# EAGLE library part FROG12NM (library BGASolder)
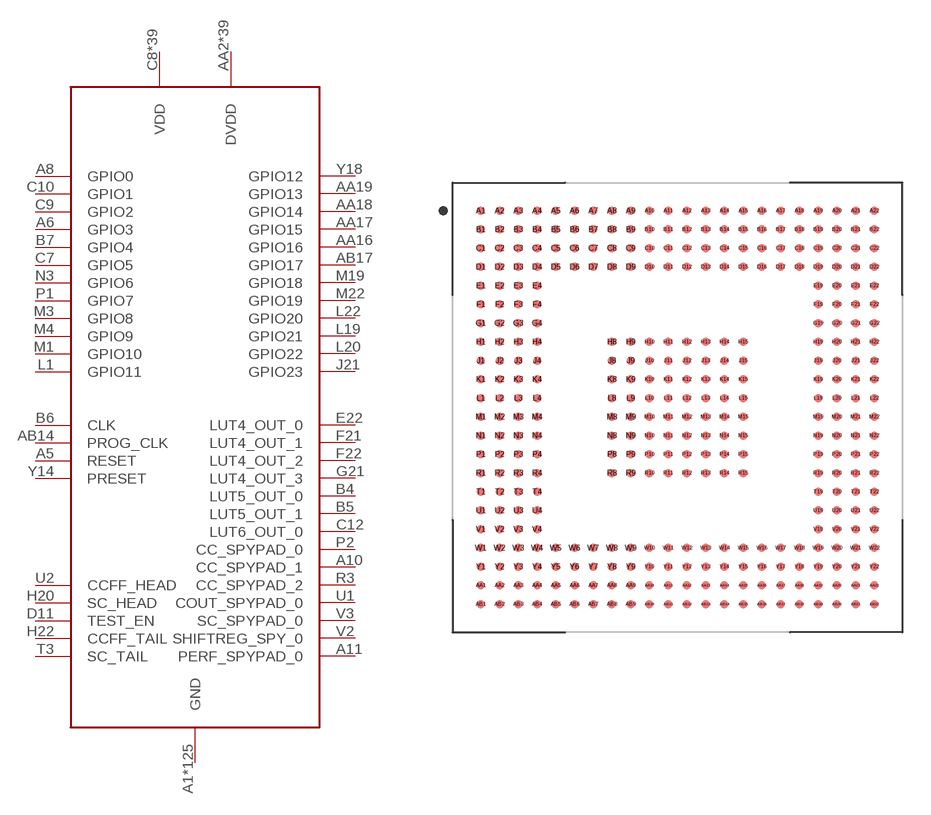
[diagram p1: symbol with the pads of BGA484C100P22X22_2400X2400X220N; footprint BGA484C100P22X22_2400X2400X220N]

Designator prefix U

## FROG12NM  [BGA484C100P22X22_2400X2400X220N]
A1  GND
A4  GND
A5  RESET
A6  GPIO3
A8  GPIO0
A9  GND
A10  CC_SPYPAD_1
A11  PERF_SPYPAD_0
A12  GND
A15  GND
A19  GND
A22  GND
AA2  DVDD
AA3  GND
AA9  DVDD
AA10  GND
AA13  GND
AA14  DVDD
AA16  GPIO16
AA17  GPIO15
AA18  GPIO14
AA19  GPIO13
AA20  GND
AA21  DVDD
AB1  GND
AB4  GND
AB5  DVDD
AB7  GND
AB10  GND
AB13  GND
AB14  PROG_CLK
AB16  GND
AB17  GPIO17
AB18  DVDD
AB19  GND
AB22  GND
B2  DVDD
B3  GND
B4  LUT5_OUT_0
B5  LUT5_OUT_1
B6  CLK
B7  GPIO4
B9  DVDD
B10  GND
B11  GND
B12  DVDD
B13  GND
B14  GND
B15  DVDD
B20  DVDD
B21  DVDD
C2  GND
C3  GND
C4  DVDD
C6  DVDD
C7  GPIO5
C8  VDD
C9  GPIO2
C10  GPIO1
C11  DVDD
C12  LUT6_OUT_0
C13  GND
C14  GND
C17  DVDD
C20  GND
C21  GND
D1  GND
D3  GND
D4  VDD
D5  VDD
D6  GND
D7  VDD
D8  VDD
D9  GND
D10  GND
D11  TEST_EN
D14  GND
D15  VDD
D16  VDD
D17  GND
D18  GND
D19  VDD
D20  DVDD
D21  GND
D22  GND
E4  GND
E19  VDD
E20  DVDD
E22  LUT4_OUT_0
F3  DVDD
F4  GND
F19  GND
F20  DVDD
F21  LUT4_OUT_1
F22  LUT4_OUT_2
G1  GND
G3  DVDD
G4  GND
G19  GND
G20  DVDD
G21  LUT4_OUT_3
G22  GND
H4  DVDD
H8  GND
H9  VDD
H10  VDD
H11  VDD
H12  VDD
H13  VDD
H14  VDD
H15  GND
H19  DVDD
H20  SC_HEAD
H22  CCFF_TAIL
J4  GND
J8  VDD
J9  GND
J10  GND
J11  GND
J12  GND
J13  GND
J14  GND
J15  VDD
J21  GPIO23
K1  GND
K4  GND
K8  VDD
K9  GND
K10  GND
K11  GND
K12  GND
K13  GND
K14  GND
K15  VDD
K19  GND
K22  GND
L1  GPIO11
L2  GND
L4  GND
L8  VDD
L9  GND
L10  GND
L11  GND
L12  GND
L13  GND
L14  GND
L15  VDD
L19  GPIO21
L20  GPIO22
L21  GND
L22  GPIO20
M1  GPIO10
M2  GND
M3  GPIO8
M4  GPIO9
M8  VDD
M9  GND
M10  GND
M11  GND
M12  GND
M13  GND
M14  GND
M15  VDD
M19  GPIO18
M20  GND
M21  GND
M22  GPIO19
N1  GND
N2  DVDD
N3  GPIO6
N4  GND
N8  VDD
N9  GND
N10  GND
N11  GND
N12  GND
N13  GND
N14  GND
N15  VDD
N19  GND
N21  DVDD
N22  GND
P1  GPIO7
P2  CC_SPYPAD_0
P8  VDD
P9  GND
P10  GND
P11  GND
P12  GND
P13  GND
P14  GND
P15  VDD
R2  GND
R3  CC_SPYPAD_2
R4  DVDD
R8  GND
R9  VDD
R10  VDD
R11  VDD
R12  VDD
R13  VDD
R14  VDD
R15  GND
R19  DVDD
R20  DVDD
T1  GND
T2  GND
T3  SC_TAIL
T4  DVDD
T19  GND
T22  GND
U1  COUT_SPYPAD_0
U2  CCFF_HEAD
U3  DVDD
U4  GND
U19  GND
U20  DVDD
U21  DVDD
V1  DVDD
V2  SHIFTREG_SPY_0
V3  SC_SPYPAD_0
V4  GND
V19  GND
V21  DVDD
V22  DVDD
W1  GND
W2  GND
W4  VDD
W5  VDD
W6  GND
W7  GND
W8  VDD
W10  GND
W13  GND
W15  VDD
W16  GND
W17  GND
W18  VDD
W19  VDD
W22  GND
Y2  GND
Y3  GND
Y6  DVDD
Y10  GND
Y13  GND
Y14  PRESET
Y16  DVDD
Y17  DVDD
Y18  GPIO12
Y20  GND

## Footprint BGA484C100P22X22_2400X2400X220N (pad centres in mm)
352-BGA, collapsing, 1.00 mm pitch, 24.00 X 24.00 X 2.20 mm body 352-pin collapsing BGA package with 1.00 mm col pitch and 1.00 mm row pitch with body size 24.00 X 24.00 X 2.20 mm
smd 0.45 x 0.45: A1 -10.5,10.5; A2 -9.5,10.5; A3 -8.5,10.5; A4 -7.5,10.5; A5 -6.5,10.5; A6 -5.5,10.5; A7 -4.5,10.5; A8 -3.5,10.5; A9 -2.5,10.5; A10 -1.5,10.5; A11 -0.5,10.5; A12 0.5,10.5; A13 1.5,10.5; A14 2.5,10.5; A15 3.5,10.5; A16 4.5,10.5; A17 5.5,10.5; A18 6.5,10.5; A19 7.5,10.5; A20 8.5,10.5; A21 9.5,10.5; A22 10.5,10.5; AA1 -10.5,-9.5; AA2 -9.5,-9.5; AA3 -8.5,-9.5; AA4 -7.5,-9.5; AA5 -6.5,-9.5; AA6 -5.5,-9.5; AA7 -4.5,-9.5; AA8 -3.5,-9.5; AA9 -2.5,-9.5; AA10 -1.5,-9.5; AA11 -0.5,-9.5; AA12 0.5,-9.5; AA13 1.5,-9.5; AA14 2.5,-9.5; AA15 3.5,-9.5; AA16 4.5,-9.5; AA17 5.5,-9.5; AA18 6.5,-9.5; AA19 7.5,-9.5; AA20 8.5,-9.5; AA21 9.5,-9.5; AA22 10.5,-9.5; AB1 -10.5,-10.5; AB2 -9.5,-10.5; AB3 -8.5,-10.5; AB4 -7.5,-10.5; AB5 -6.5,-10.5; AB6 -5.5,-10.5; AB7 -4.5,-10.5; AB8 -3.5,-10.5; AB9 -2.5,-10.5; AB10 -1.5,-10.5; AB11 -0.5,-10.5; AB12 0.5,-10.5; AB13 1.5,-10.5; AB14 2.5,-10.5; AB15 3.5,-10.5; AB16 4.5,-10.5; AB17 5.5,-10.5; AB18 6.5,-10.5; AB19 7.5,-10.5; AB20 8.5,-10.5; AB21 9.5,-10.5; AB22 10.5,-10.5; B1 -10.5,9.5; B2 -9.5,9.5; B3 -8.5,9.5; B4 -7.5,9.5; B5 -6.5,9.5; B6 -5.5,9.5; B7 -4.5,9.5; B8 -3.5,9.5; B9 -2.5,9.5; B10 -1.5,9.5; B11 -0.5,9.5; B12 0.5,9.5; B13 1.5,9.5; B14 2.5,9.5; B15 3.5,9.5; B16 4.5,9.5; B17 5.5,9.5; B18 6.5,9.5; B19 7.5,9.5; B20 8.5,9.5; B21 9.5,9.5; B22 10.5,9.5; C1 -10.5,8.5; C2 -9.5,8.5; C3 -8.5,8.5; C4 -7.5,8.5; C5 -6.5,8.5; C6 -5.5,8.5; C7 -4.5,8.5; C8 -3.5,8.5; C9 -2.5,8.5; C10 -1.5,8.5; C11 -0.5,8.5; C12 0.5,8.5; C13 1.5,8.5; C14 2.5,8.5; C15 3.5,8.5; C16 4.5,8.5; C17 5.5,8.5; C18 6.5,8.5; C19 7.5,8.5; C20 8.5,8.5; C21 9.5,8.5; C22 10.5,8.5; D1 -10.5,7.5; D2 -9.5,7.5; D3 -8.5,7.5; D4 -7.5,7.5; D5 -6.5,7.5; D6 -5.5,7.5; D7 -4.5,7.5; D8 -3.5,7.5; D9 -2.5,7.5; D10 -1.5,7.5; D11 -0.5,7.5; D12 0.5,7.5; D13 1.5,7.5; D14 2.5,7.5; D15 3.5,7.5; D16 4.5,7.5; D17 5.5,7.5; D18 6.5,7.5; D19 7.5,7.5; D20 8.5,7.5; D21 9.5,7.5; D22 10.5,7.5; E1 -10.5,6.5; E2 -9.5,6.5; E3 -8.5,6.5; E4 -7.5,6.5; E19 7.5,6.5; E20 8.5,6.5; E21 9.5,6.5; E22 10.5,6.5; F1 -10.5,5.5; F2 -9.5,5.5; F3 -8.5,5.5; F4 -7.5,5.5; F19 7.5,5.5; F20 8.5,5.5; F21 9.5,5.5; F22 10.5,5.5; G1 -10.5,4.5; G2 -9.5,4.5; G3 -8.5,4.5; G4 -7.5,4.5; G19 7.5,4.5; G20 8.5,4.5; G21 9.5,4.5; G22 10.5,4.5; H1 -10.5,3.5; H2 -9.5,3.5; H3 -8.5,3.5; H4 -7.5,3.5; H8 -3.5,3.5; H9 -2.5,3.5; H10 -1.5,3.5; H11 -0.5,3.5; H12 0.5,3.5; H13 1.5,3.5; H14 2.5,3.5; H15 3.5,3.5; H19 7.5,3.5; H20 8.5,3.5; H21 9.5,3.5; H22 10.5,3.5; J1 -10.5,2.5; J2 -9.5,2.5; J3 -8.5,2.5; J4 -7.5,2.5; J8 -3.5,2.5; J9 -2.5,2.5; J10 -1.5,2.5; J11 -0.5,2.5; J12 0.5,2.5; J13 1.5,2.5; J14 2.5,2.5; J15 3.5,2.5; J19 7.5,2.5; J20 8.5,2.5; J21 9.5,2.5; J22 10.5,2.5; K1 -10.5,1.5; K2 -9.5,1.5; K3 -8.5,1.5; K4 -7.5,1.5; K8 -3.5,1.5; K9 -2.5,1.5; K10 -1.5,1.5; K11 -0.5,1.5; K12 0.5,1.5; K13 1.5,1.5; K14 2.5,1.5; K15 3.5,1.5; K19 7.5,1.5; K20 8.5,1.5; K21 9.5,1.5; K22 10.5,1.5; L1 -10.5,0.5; L2 -9.5,0.5; L3 -8.5,0.5; L4 -7.5,0.5; L8 -3.5,0.5; L9 -2.5,0.5; L10 -1.5,0.5; L11 -0.5,0.5; L12 0.5,0.5; L13 1.5,0.5; L14 2.5,0.5; L15 3.5,0.5; L19 7.5,0.5; L20 8.5,0.5; L21 9.5,0.5; L22 10.5,0.5; M1 -10.5,-0.5; M2 -9.5,-0.5; M3 -8.5,-0.5; M4 -7.5,-0.5; M8 -3.5,-0.5; M9 -2.5,-0.5; M10 -1.5,-0.5; M11 -0.5,-0.5; M12 0.5,-0.5; M13 1.5,-0.5; M14 2.5,-0.5; M15 3.5,-0.5; M19 7.5,-0.5; M20 8.5,-0.5; M21 9.5,-0.5; M22 10.5,-0.5; N1 -10.5,-1.5; N2 -9.5,-1.5; N3 -8.5,-1.5; N4 -7.5,-1.5; N8 -3.5,-1.5; N9 -2.5,-1.5; N10 -1.5,-1.5; N11 -0.5,-1.5; N12 0.5,-1.5; N13 1.5,-1.5; N14 2.5,-1.5; N15 3.5,-1.5; N19 7.5,-1.5; N20 8.5,-1.5; N21 9.5,-1.5; N22 10.5,-1.5; P1 -10.5,-2.5; P2 -9.5,-2.5; P3 -8.5,-2.5; P4 -7.5,-2.5; P8 -3.5,-2.5; P9 -2.5,-2.5; P10 -1.5,-2.5; P11 -0.5,-2.5; P12 0.5,-2.5; P13 1.5,-2.5; P14 2.5,-2.5; P15 3.5,-2.5; P19 7.5,-2.5; P20 8.5,-2.5; P21 9.5,-2.5; P22 10.5,-2.5; R1 -10.5,-3.5; R2 -9.5,-3.5; R3 -8.5,-3.5; R4 -7.5,-3.5; R8 -3.5,-3.5; R9 -2.5,-3.5; R10 -1.5,-3.5; R11 -0.5,-3.5; R12 0.5,-3.5; R13 1.5,-3.5; R14 2.5,-3.5; R15 3.5,-3.5; R19 7.5,-3.5; R20 8.5,-3.5; R21 9.5,-3.5; R22 10.5,-3.5; T1 -10.5,-4.5; T2 -9.5,-4.5; T3 -8.5,-4.5; T4 -7.5,-4.5; T19 7.5,-4.5; T20 8.5,-4.5; T21 9.5,-4.5; T22 10.5,-4.5; U1 -10.5,-5.5; U2 -9.5,-5.5; U3 -8.5,-5.5; U4 -7.5,-5.5; U19 7.5,-5.5; U20 8.5,-5.5; U21 9.5,-5.5; U22 10.5,-5.5; V1 -10.5,-6.5; V2 -9.5,-6.5; V3 -8.5,-6.5; V4 -7.5,-6.5; V19 7.5,-6.5; V20 8.5,-6.5; V21 9.5,-6.5; V22 10.5,-6.5; W1 -10.5,-7.5; W2 -9.5,-7.5; W3 -8.5,-7.5; W4 -7.5,-7.5; W5 -6.5,-7.5; W6 -5.5,-7.5; W7 -4.5,-7.5; W8 -3.5,-7.5; W9 -2.5,-7.5; W10 -1.5,-7.5; W11 -0.5,-7.5; W12 0.5,-7.5; W13 1.5,-7.5; W14 2.5,-7.5; W15 3.5,-7.5; W16 4.5,-7.5; W17 5.5,-7.5; W18 6.5,-7.5; W19 7.5,-7.5; W20 8.5,-7.5; W21 9.5,-7.5; W22 10.5,-7.5; Y1 -10.5,-8.5; Y2 -9.5,-8.5; Y3 -8.5,-8.5; Y4 -7.5,-8.5; Y5 -6.5,-8.5; Y6 -5.5,-8.5; Y7 -4.5,-8.5; Y8 -3.5,-8.5; Y9 -2.5,-8.5; Y10 -1.5,-8.5; Y11 -0.5,-8.5; Y12 0.5,-8.5; Y13 1.5,-8.5; Y14 2.5,-8.5; Y15 3.5,-8.5; Y16 4.5,-8.5; Y17 5.5,-8.5; Y18 6.5,-8.5; Y19 7.5,-8.5; Y20 8.5,-8.5; Y21 9.5,-8.5; Y22 10.5,-8.5